# Altium footprint library BitMainTech_V1.3.PcbLib: 33 footprints (part 1 of 3)
Each footprint in its own frame and in the unit in brackets; x right, y up, seen from the top. Pads: shape width x height; smd on the part's side, far side on the other; paste and mask are expansions set on the pad; w line width, h text height; cw(c..) or ccw(c..) is an arc to the next point about the centre after c.
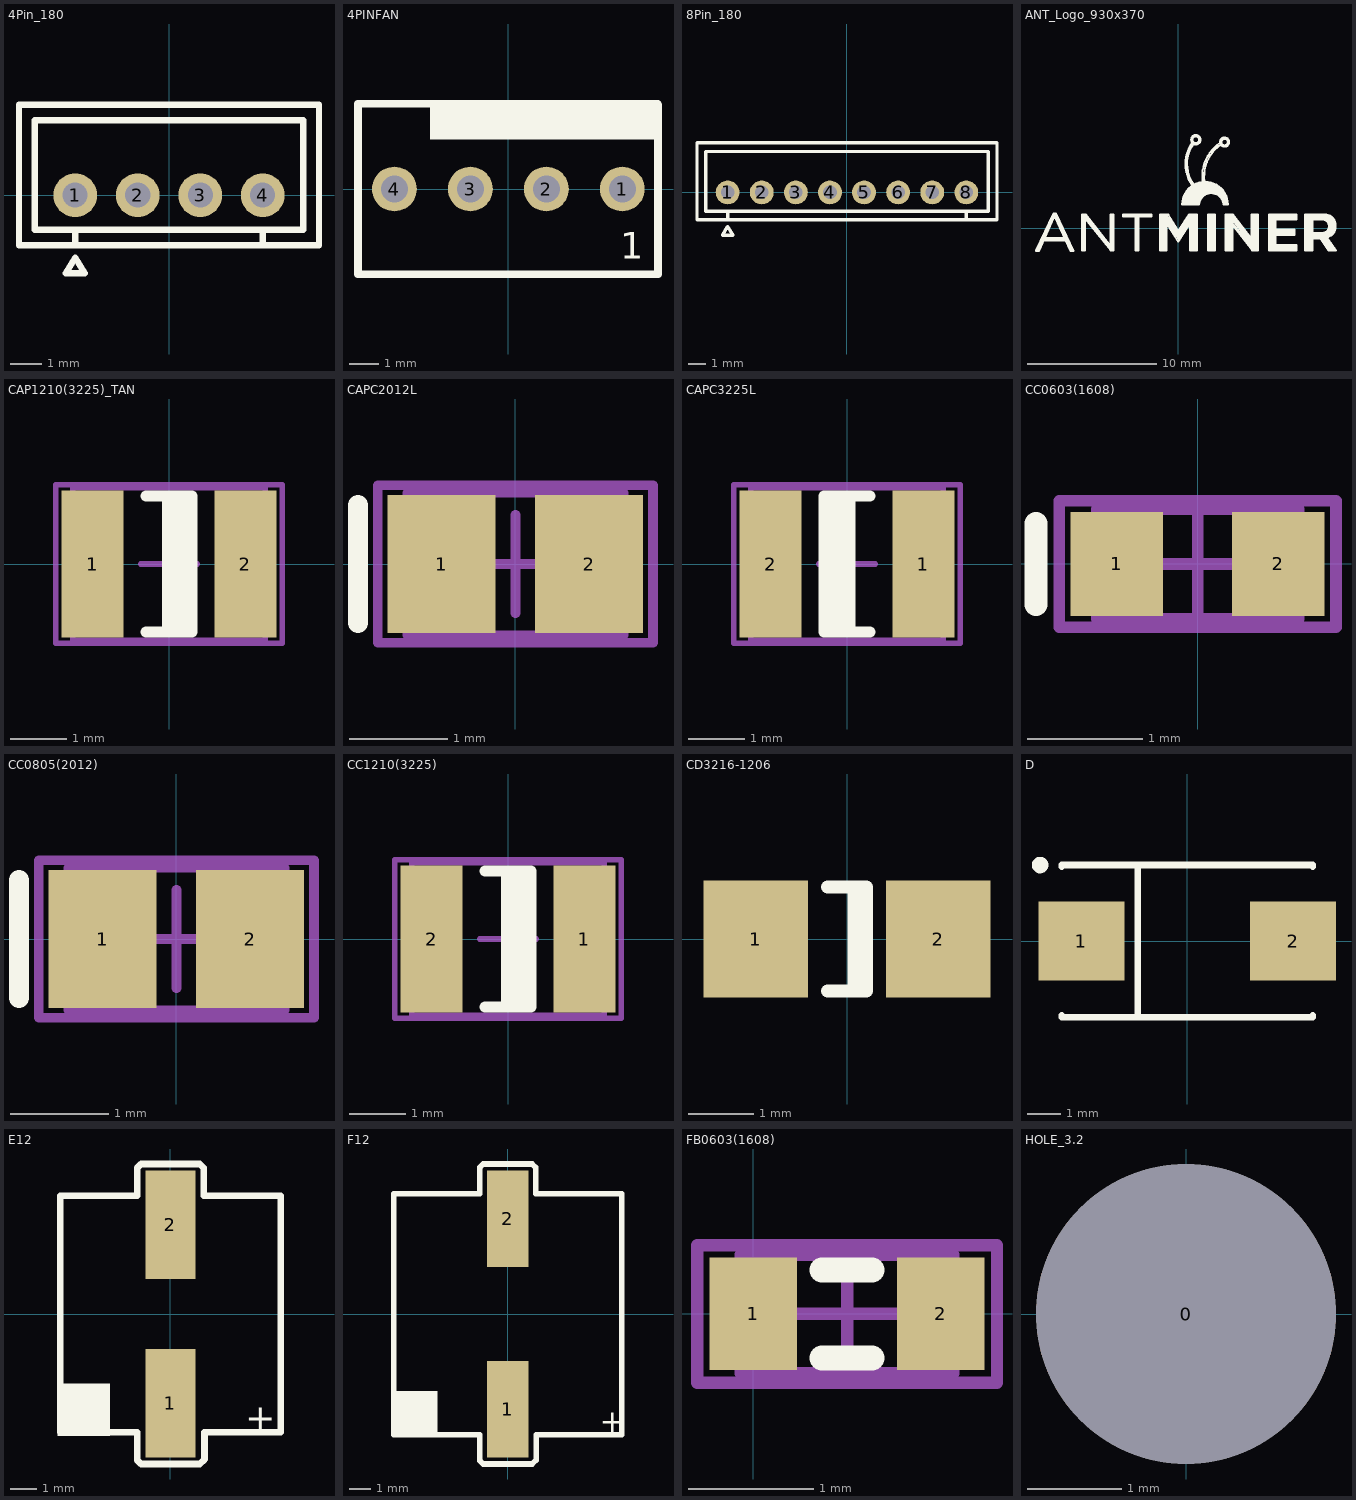
[diagram p0: the footprints below, top view; thin cyan lines are the x and y axes]

## 4Pin_180 [mm]
height 6.8
pads (4):
  round 1.4 hole 0.8: 1(-3,0) 2(-1,0) 3(1,0) 4(3,0)
Top Overlay:
  lines w0.203: -3,-1.6 -3,-1.1 ; 3,-1.6 3,-1.1 ; -4.8,-1.6 4.8,-1.6 4.8,2.9 -4.8,2.9 -4.8,-1.6 ; -4.3,-1.1 4.3,-1.1 4.3,2.4 -4.3,2.4 -4.3,-1.1 ; -3.3,-2.5 -3,-2 -2.7,-2.5 -3.3,-2.5

## 4PINFAN [mm]
height 18.15
pads (4):
  round 1.5 hole 0.9 paste+0.05 mask+0.05: 1(3.81,0) 2(1.27,0) 3(-1.27,0) 4(-3.81,0)
Top Overlay:
  rectangle: -2.617,1.651 4.927,2.794
  lines w0.254: 5,2.85 -5.029,2.85 -5.029,-2.845 -5.024,-2.85 5.004,-2.85 5.004,2.819
  text "1" at 3.734,-2.337 h0.89

## 8Pin_180 [mm]
height 6.8
pads (8):
  round 1.4 hole 0.8: 1(-7,0) 2(-5,0) 3(-3,0) 4(-1,0) 5(1,0) 6(3,0) 7(5,0) 8(7,0)
Top Overlay:
  lines w0.203: -7,-1.6 -7,-1.1 ; 7,-1.6 7,-1.1 ; -8.8,-1.6 -8.8,2.9 8.8,2.9 8.8,-1.6 -8.8,-1.6 ; -8.3,-1.1 -8.3,2.4 8.3,2.4 8.3,-1.1 -8.3,-1.1 ; -7.3,-2.5 -6.7,-2.5 -7,-2 -7.3,-2.5

## ANT_Logo_930x370 [mm]
height 18.15
Top Overlay:
  drawing of 187 lines, arcs and shapes, not listed

## CAP1210(3225)_TAN [mm] "Chip Capacitor, Body 3.2x2.5mm, IPC High Density"
height 1.35
pads (2):
  rect 1.1x2.6 smd: 1(-1.35,0) 2(1.35,0)
Top Overlay:
  rectangle: -0.125,-1.2 0.425,1.2
  lines w0.2: -0.4,-1.2 0.4,-1.2 0.4,1.2 -0.4,1.2
Mechanical 13:
  lines w0.1: -1.7,-1.35 1.7,-1.35 1.7,1.35 -1.7,1.35 -1.7,-1.35
Mechanical 15:
  lines w0.1: -0.5,0 0.5,0 ; 0,-0.5 0,0.5 ; -2,-1.4 2,-1.4 2,1.4 -2,1.4 -2,-1.4
3D body: height 1.35, standoff 0, extent -1.7,-1.35 1.7,1.35

## CAPC2012L [mm] "Chip Capacitor, Body 2.0x1.3mm, IPC High Density"
height 1.1
pads (2):
  rect 1.1x1.4 smd: 1(-0.75,0) 2(0.75,0)
Top Overlay:
  lines w0.2: -1.6,-0.6 -1.6,0.6
Mechanical 13:
  lines w0.1: -1.1,-0.725 1.1,-0.725 1.1,0.725 -1.1,0.725 -1.1,-0.725
Mechanical 15:
  lines w0.1: -0.5,0 0.5,0 ; 0,-0.5 0,0.5 ; -1.4,-0.8 1.4,-0.8 1.4,0.8 -1.4,0.8 -1.4,-0.8
3D body: height 1.1, standoff 0, extent -1.1,-0.725 1.1,0.725

## CAPC3225L [mm] "Chip Capacitor, Body 3.2x2.5mm, IPC High Density"
height 1.35
pads (2):
  rect 1.1x2.6 smd: 1(1.35,0) 2(-1.35,0)
Top Overlay:
  rectangle: -0.4,-1.2 0.15,1.2
  lines w0.2: 0.4,-1.2 -0.4,-1.2 -0.4,1.2 0.4,1.2
Mechanical 13:
  lines w0.1: -1.7,-1.35 -1.7,1.35 1.7,1.35 1.7,-1.35 -1.7,-1.35
Mechanical 15:
  lines w0.1: -0.5,0 0.5,0 ; 0,-0.5 0,0.5 ; -2,-1.4 -2,1.4 2,1.4 2,-1.4 -2,-1.4
3D body: height 1.35, standoff 0, extent -1.7,-1.35 1.7,1.35

## CC0603(1608) [mm] "Chip Capacitor, Body 1.6x0.8mm, IPC High Density"
height 0.85
pads (2):
  rect 0.8x0.9 smd: 1(-0.7,0) 2(0.7,0)
Top Overlay:
  lines w0.2: -1.4,-0.35 -1.4,0.35
Mechanical 13:
  lines w0.1: -0.875,-0.475 0.875,-0.475 0.875,0.475 -0.875,0.475 -0.875,-0.475
Mechanical 15:
  lines w0.1: -0.475,0 0.475,0 ; 0,-0.475 0,0.475 ; -1.2,-0.55 1.2,-0.55 1.2,0.55 -1.2,0.55 -1.2,-0.55
3D body: height 0.85, standoff 0, extent -0.875,-0.475 0.875,0.475

## CC0805(2012) [mm] "Chip Capacitor, Body 2.0x1.3mm, IPC High Density"
height 1.1
pads (2):
  rect 1.1x1.4 smd: 1(-0.75,0) 2(0.75,0)
Top Overlay:
  lines w0.2: -1.6,-0.6 -1.6,0.6
Mechanical 13:
  lines w0.1: -1.1,-0.725 -1.1,0.725 1.1,0.725 1.1,-0.725 -1.1,-0.725
Mechanical 15:
  lines w0.1: -0.5,0 0.5,0 ; 0,-0.5 0,0.5 ; -1.4,-0.8 -1.4,0.8 1.4,0.8 1.4,-0.8 -1.4,-0.8
3D body: height 1.1, standoff 0, extent -1.1,-0.725 1.1,0.725

## CC1210(3225) [mm] "Chip Capacitor, Body 3.2x2.5mm, IPC High Density"
height 1.35
pads (2):
  rect 1.1x2.6 smd: 1(1.35,0) 2(-1.35,0)
Top Overlay:
  rectangle: -0.125,-1.2 0.425,1.2
  lines w0.2: -0.4,-1.2 0.4,-1.2 0.4,1.2 -0.4,1.2
Mechanical 13:
  lines w0.1: -1.7,-1.35 1.7,-1.35 1.7,1.35 -1.7,1.35 -1.7,-1.35
Mechanical 15:
  lines w0.1: -0.5,0 0.5,0 ; 0,-0.5 0,0.5 ; -2,-1.4 2,-1.4 2,1.4 -2,1.4 -2,-1.4
3D body: height 1.35, standoff 0, extent -1.7,-1.35 1.7,1.35

## CD3216-1206 [mm] "Chip Diode; Body 3.2 x 1.6 mm (LxW typ)"
height 1.35
pads (2):
  rect 1.6x1.8 smd: 1(-1.4,0) 2(1.4,0)
Top Overlay:
  lines w0.2: -0.3,-0.8 0.3,-0.8 0.3,0.8 -0.3,0.8 ; 0.11,-0.8 0.11,0.8

## D [mm] "Capacitor, SM Tantalum; Body 7.3 x 4.3 mm (LxW typ)"
height 3.1
pads (2):
  rect 2.6x2.4 smd: 1(-3.2,0) 2(3.2,0)
Top Overlay:
  circle w0.25: c-4.45,2.3 r0.125
  lines w0.2: -3.8,-2.25 -3.8,-2.3 3.8,-2.3 3.8,-2.25 ; -3.8,2.25 -3.8,2.3 3.8,2.3 3.8,2.25 ; -1.5,-2.3 -1.5,2.3

## E12 [mm] "SVP"
height 8.3
pads (2):
  rect 1.9x4.15 smd: 1(0,-3.4) 2(0,3.4)
Top Overlay:
  rectangle: -4.311,-4.641 -2.311,-2.641
  lines w0.254: -4.2,-4.5 -4.2,4.5 -2.333,4.5 -1.27,4.5 -1.27,5.563 -1.118,5.715 1.118,5.715 1.27,5.563 1.27,4.5 2.333,4.5 4.2,4.5 4.2,-4.5 2.333,-4.5 1.295,-4.5 1.295,-5.537 1.118,-5.715 -1.118,-5.715 -1.27,-5.563 -1.27,-4.5 -2.333,-4.5 -4.2,-4.5
  text "+" at 2.845,-4.445 h1.02
3D body: height 0.8, standoff 0, extent -3.984,-3.992 3.984,3.992
3D body: height 12.8, standoff 0.8, extent -3.968,-3.992 4,3.992

## F12 [mm] "SVP"
height 10.3
pads (2):
  rect 1.9x4.4 smd: 1(0,-4.35) 2(0,4.35)
Top Overlay:
  region: -5.2,-3.5 -5.2,-5.5 -3.2,-5.5 -3.2,-3.5
  lines w0.254: -5.2,-5.5 -1.27,-5.5 -1.27,-6.69 -1.12,-6.84 1.115,-6.84 1.295,-6.66 1.295,-5.5 5.2,-5.5 5.2,5.5 1.27,5.5 1.27,6.695 1.115,6.85 -1.12,6.85 -1.27,6.7 -1.27,5.5 -5.2,5.5 -5.2,-5.5
  text "+" at 4.21,-5.39 h1.02
3D body: height 13.4, standoff 0.8, extent -4.96,-4.99 5,4.99
3D body: height 0.8, standoff 0, extent -5,-5.29 5.01,5.28

## FB0603(1608) [mm] "Ferrite Bead"
pads (2):
  rect 0.7x0.9 smd: 1(0,0) 2(1.5,0)
Top Overlay:
  lines w0.2: 0.55,-0.35 0.95,-0.35 ; 0.55,0.35 0.95,0.35
Mechanical 13:
  lines w0.1: -0.1,-0.475 -0.1,0.475 1.6,0.475 1.6,-0.475 -0.1,-0.475
Mechanical 15:
  lines w0.1: 0.275,0 1.225,0 ; 0.75,-0.475 0.75,0.475 ; -0.45,-0.55 -0.45,0.55 1.95,0.55 1.95,-0.55 -0.45,-0.55
3D body: height 0.6, standoff 0, extent -0.1,-0.475 1.6,0.475

## HOLE_3.2 [mm]
pads (1):
  round 3.2 hole 3.2 unplated: 0(0,0)